# EAGLE library part 1825289-1 (library switch)
SWITCH SLIDE DPDT 300MA 125V Manufacturer's datasheet <https://www.te.com/commerce/DocumentDelivery/DDEController?Action=srchrtrv&DocNm=1825289&DocType=Customer+Drawing&DocLang=English>
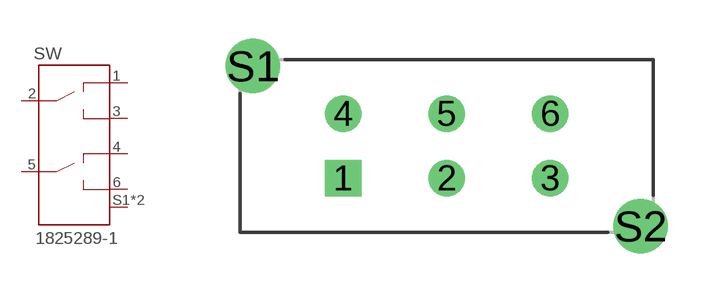
[diagram p1: symbol with the pads of 1825289-1; footprint 1825289-1]

Designator prefix SW

## 1825289-1 (CREATED_BY: PCBLayout.com; DIGIKEY_PARTNO: 450-1572-ND; MANUFACTURER: TE Connectivity ALCOSWITCH Switches; MPN: 1825289-1)  [1825289-1]
1  1  pas
2  2  pas
3  3  pas
4  4  pas
5  5  pas
6  6  pas
S1  SHIELD  pas
S2  SHIELD  pas

## Footprint 1825289-1 (pad centres in mm)
drill 0.9 square: 1 -4,-1.25
drill 0.9: 2 0,-1.25; 3 4,-1.25; 4 -4,1.25; 5 0,1.25; 6 4,1.25
drill 1.4: S1 -7.5,3.1; S2 7.5,-3.1